# Altium footprint library Gastroscopy-CutController.PcbLib: 29 footprints (part 1 of 2)
Each footprint in its own frame and in the unit in brackets; x right, y up, seen from the top. Pads: shape width x height; smd on the part's side, far side on the other; paste and mask are expansions set on the pad; w line width, h text height; cw(c..) or ccw(c..) is an arc to the next point about the centre after c.
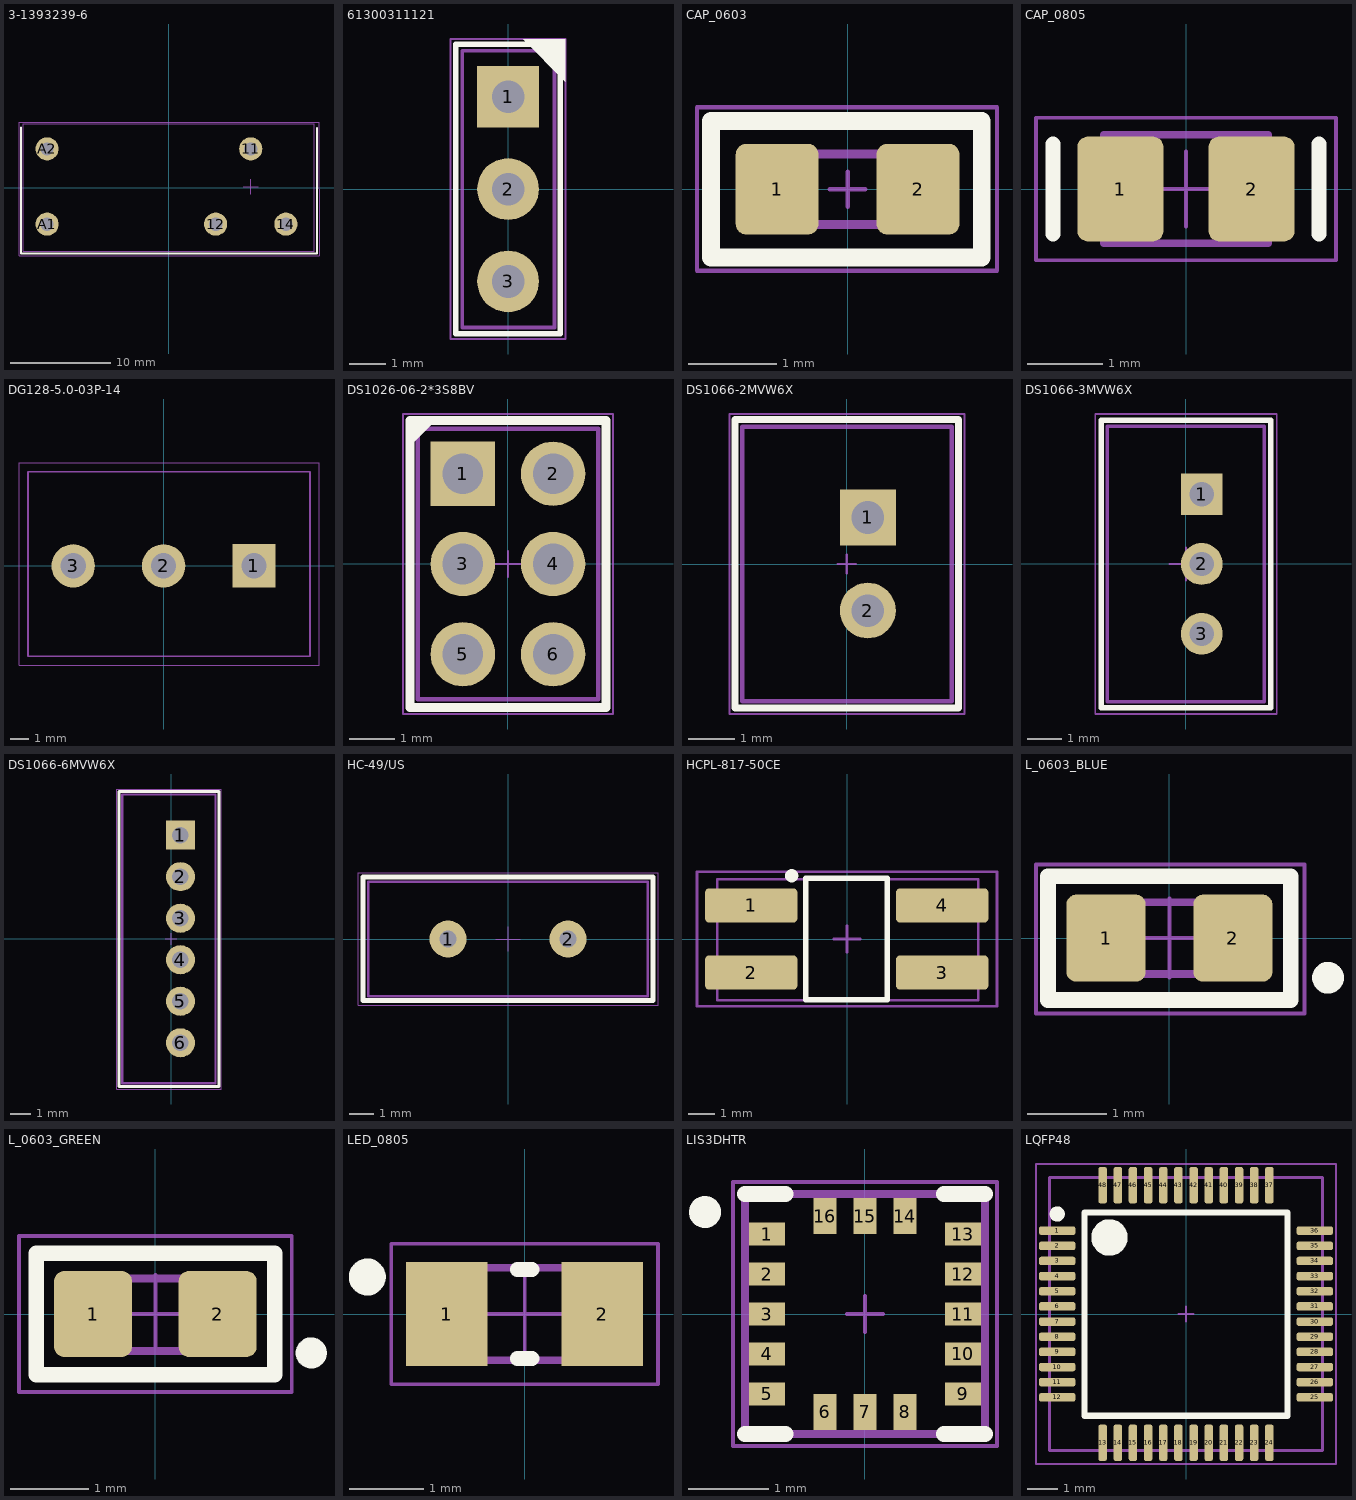
[diagram p0: the footprints below, top view; thin cyan lines are the x and y axes]

## 3-1393239-6 [mm]
height 1.12
pads (5):
  round 2.3 hole 1.32 mask+0.1: 11(8.175,3.85) 12(4.675,-3.65) 14(11.675,-3.65) A1(-12.125,-3.65) A2(-12.125,3.85)
Top Overlay:
  lines w0.2: -14.741,5.959 -14.741,-6.6 14.775,-6.6 14.775,5.945
Mechanical 9:
  text ".Designator" at -5.275,-9.195 h3
Mechanical 10:
  text ".Comment" at -5.175,-11.095 h2
Mechanical 13:
  lines w0.1: -14.5,-6.35 14.5,-6.35 14.5,6.35 -14.5,6.35 -14.5,-6.35
Mechanical 15:
  lines w0.1: 7.425,0.095 8.925,0.095 ; 8.175,-0.655 8.175,0.845 ; -14.925,-6.8 -14.925,6.502 14.975,6.502 14.975,-6.8 -14.925,-6.8
3D body "c-3-1393239-6-d-3d.stp": height 15.7, standoff -3.6, extent -14.5,-6.35 14.5,6.35

## 61300311121 [mm] "CONN HEADER VERT 3POS 2.54MM"
height 8.54
pads (3):
  rect 1.7x1.7 hole 0.9: 1(0,2.54)
  round 1.7 hole 0.9: 2(0,0) 3(0,-2.54)
Top Overlay:
  region: 0.413,4.132 1.576,4.132 1.576,2.956
  lines w0.15: -1.438,-3.982 -1.438,3.985 1.438,3.985 1.438,-3.982 -1.438,-3.982
Mechanical 13:
  lines w0.1: -1.265,-3.81 -1.265,3.81 1.275,3.81 1.275,-3.81 -1.265,-3.81
Mechanical 15:
  lines w0.05: -0.4,0 0.4,0 ; 0,-0.4 0,0.4 ; -1.583,-4.125 -1.583,4.132 1.576,4.132 1.576,-3.991 1.576,-4.125 -1.583,-4.125
3D body "User Library-PLS-3.step": height 8.54, standoff -3, extent -1.265,-3.81 1.275,3.81

## CAP_0603 [mm] "Generic 0603 capacitor, IPC"
height 1
pads (2):
  rrect25% 0.94x1.03 smd: 1(-0.8,0) 2(0.8,0)
Top Overlay:
  lines w0.2: -1.55,-0.775 1.525,-0.775 1.525,0.775 -1.55,0.775 -1.55,-0.775
Mechanical 13:
  lines w0.1: -0.8,-0.4 -0.8,0.4 0.8,0.4 0.8,-0.4 -0.8,-0.4
Mechanical 15:
  lines w0.05: -0.2,0 0.2,0 ; 0,-0.2 0,0.2 ; -1.709,-0.924 1.696,-0.924 1.696,0.929 -1.709,0.929 -1.709,-0.924
3D body "CAPC0603.STEP": height 0.9, standoff 0, extent -0.8,-0.4 0.8,0.4

## CAP_0805 [mm] "Generic 0805 capacitor, IPC"
height 1.35
pads (2):
  rrect25% 1.15x1.4 smd: 1(-0.875,0) 2(0.875,0)
Top Overlay:
  lines w0.2: -1.775,-0.6 -1.775,0.6 ; 1.775,-0.6 1.775,0.6
Mechanical 13:
  lines w0.1: -1.1,-0.725 1.1,-0.725 1.1,0.725 -1.1,0.725 -1.1,-0.725
Mechanical 15:
  lines w0.05: -0.5,0 0.5,0 ; 0,-0.5 0,0.5 ; -2,-0.95 2,-0.95 2,0.95 -2,0.95 -2,-0.95
3D body "C0805.step": height 1.46, standoff 0.01, extent -1.1,-0.675 1.1,0.675

## DG128-5.0-03P-14 [mm]
pads (3):
  rect 2.4x2.4 hole 1.4: 1(5,0)
  round 2.4 hole 1.4: 2(0,0) 3(-5,0)
Mechanical 13:
  lines w0.1: -7.5,-5 8.1,-5 8.1,5.2 -7.5,5.2 -7.5,-5
Mechanical 15:
  lines w0.05: -0.3,0 0.3,0 ; 0,-0.3 0,0.3 ; -8,-5.5 8.6,-5.5 8.6,5.7 -8,5.7 -8,-4.4 -8,-5.5
3D body "DG128-5.0-03.stp": height 14.1, standoff -3.5, extent -7.5,-5 8.1,5.2

## DS1026-06-2*3S8BV [mm]
pads (6):
  rect 1.428x1.428 hole 0.9: 1(-1,2)
  round 1.428 hole 0.9: 2(1,2) 3(-1,0) 4(1,0) 5(-1,-2) 6(1,-2)
Top Overlay:
  region: -2.176,3.176 -2.176,2.608 -1.608,3.176
  lines w0.2: -2.176,-3.176 -2.176,3.176 2.173,3.176 2.173,-3.176 -2.176,-3.176
Mechanical 13:
  lines w0.1: -2,-3 -2,3 2,3 2,-3 -2,-3
Mechanical 15:
  lines w0.05: -0.288,0 0.288,0 ; 0,-0.288 0,0.288 ; -2.324,-3.325 -2.324,3.324 2.326,3.324 2.326,-3.325 -2.324,-3.325
3D body "User Library-PBD2-6.step": height 4.5, standoff -3.15, extent -2,-3 2,3

## DS1066-2MVW6X [mm]
pads (2):
  rect 1.2x1.2 hole 0.7: 1(0.45,1)
  round 1.2 hole 0.7: 2(0.45,-1)
Top Overlay:
  lines w0.15: -2.402,-3.098 2.401,-3.098 2.401,3.103 -2.402,3.103 -2.402,-3.098
Mechanical 13:
  lines w0.1: -2.25,-2.95 -2.25,2.95 2.25,2.95 2.25,-2.95 -2.25,-2.95
Mechanical 15:
  lines w0.05: -0.197,0 0.197,0 ; 0,-0.197 0,0.197 ; -2.523,-3.223 -2.523,3.224 2.528,3.224 2.528,-3.223 -2.523,-3.223
3D body "B2B-PH-K-S.STEP": height 6, standoff -3.4, extent -2.25,-2.95 2.25,2.95

## DS1066-3MVW6X [mm]
pads (3):
  rect 1.2x1.2 hole 0.7: 1(0.45,2)
  round 1.2 hole 0.7: 2(0.45,0) 3(0.45,-2)
Top Overlay:
  lines w0.15: -2.427,-4.122 2.426,-4.122 2.426,4.123 -2.427,4.123 -2.427,-4.122
Mechanical 13:
  lines w0.1: -2.25,-3.95 2.25,-3.95 2.25,3.95 -2.25,3.95 -2.25,-3.95
Mechanical 15:
  lines w0.05: -0.475,0 0.475,0 ; 0,-0.475 0,0.475 ; -2.599,-4.3 2.525,-4.3 2.6,-4.3 2.6,4.299 -1.783,4.299 -2.599,4.299 -2.599,-4.3
3D body "B3B-PH-K-S.STEP": height 6, standoff -3.4, extent -2.25,-3.95 2.25,3.95

## DS1066-6MVW6X [mm]
pads (6):
  rect 1.4x1.4 hole 0.8: 1(0.45,5)
  round 1.4 hole 0.8: 2(0.45,3) 3(0.45,1) 4(0.45,-1) 5(0.45,-3) 6(0.45,-5)
Top Overlay:
  lines w0.15: -2.5,-7.102 -2.5,7.099 2.301,7.099 2.301,-7.102 -2.5,-7.102
Mechanical 13:
  lines w0.1: -2.35,-6.95 -2.35,6.95 2.15,6.95 2.15,-6.95 -2.35,-6.95
Mechanical 15:
  lines w0.05: -0.268,0 0.268,0 ; 0,-0.268 0,0.268 ; -2.624,-7.225 2.426,-7.225 2.426,7.224 -2.624,7.224 -2.624,-7.225
3D body "B6B-PH-K-S.STEP": height 6, standoff -3.4, extent -2.35,-6.95 2.15,6.95

## HC-49/US [mm]
pads (2):
  round 1.5 hole 0.7: 1(-2.44,0) 2(2.44,0)
Top Overlay:
  lines w0.2: -5.9,-2.5 5.9,-2.5 5.9,2.522 -5.9,2.522 -5.9,-2.5
Mechanical 13:
  lines w0.1: -5.675,-2.325 5.675,-2.325 5.675,2.325 -5.675,2.325 -5.675,-2.325
Mechanical 15:
  lines w0.05: -0.5,0 0.5,0 ; 0,-0.5 0,0.5 ; -6.1,-2.7 6.1,-2.7 6.1,2.7 -6.1,2.7 -6.1,-2.7
3D body "User Library-HC49_Crystal.step": height 3.6, standoff -12.7, extent -5.675,-2.325 5.675,2.325

## HCPL-817-50CE [mm] "SOP, 4-Leads, Body 4,58x6,50mm, Pitch 2,54mm, IPC Medium Density"
height 3.7
pads (4):
  rrect25% 3.5x1.3 smd: 1(-3.625,1.27) 2(-3.625,-1.27) 3(3.6,-1.27) 4(3.6,1.27)
Top Overlay:
  circle w0.25: c-2.094,2.394 r0.125
  lines w0.2: -1.563,-2.3 -1.563,2.3 1.52,2.3 1.52,-2.3 -1.563,-2.3
Mechanical 9:
  text ".Designator" at -5,3.3 h3
Mechanical 10:
  text ".Comment" at -2.9,-4 h2
Mechanical 13:
  lines w0.1: -4.915,-2.315 4.965,-2.315 4.965,2.265 -4.915,2.265 -4.915,-2.315
Mechanical 15:
  lines w0.1: -0.5,0 0.5,0 ; 0,-0.5 0,0.5 ; -5.675,-2.55 -5.675,2.55 5.675,2.55 5.675,-2.55 -5.675,-2.55
3D body "User Library-KB817-B.STEP": height 3.75, standoff -0.07, extent -4.915,-2.315 4.965,2.265

## L_0603_BLUE [mm]
height 1.1
pads (2):
  rrect25% 1x1.1 smd: 1(-0.8,0) 2(0.8,0)
Top Overlay:
  circle w0.2: c2,-0.5 r0.1
  lines w0.2: -1.53,-0.78 1.53,-0.78 1.53,0.78 -1.53,0.78 -1.53,-0.78
Mechanical 13:
  lines w0.1: -0.859,-0.45 -0.859,0.452 0.831,0.452 0.831,-0.45 -0.859,-0.45
Mechanical 15:
  lines w0.05: -0.5,0 0.5,0 ; 0,-0.5 0,0.5 ; -1.683,-0.95 -1.683,0.927 1.703,0.927 1.703,-0.95 -1.683,-0.95
3D body "User Library-LED0603_BLUE.STEP": height 0.9, standoff 0, extent -0.85,-0.45 0.85,0.45

## L_0603_GREEN [mm]
height 1.1
pads (2):
  rrect25% 1x1.1 smd: 1(-0.8,0) 2(0.8,0)
Top Overlay:
  circle w0.2: c2,-0.5 r0.1
  lines w0.2: -1.53,-0.78 -1.53,0.78 1.53,0.78 1.53,-0.78 -1.53,-0.78
Mechanical 13:
  lines w0.1: -0.85,-0.474 0.844,-0.474 0.844,0.455 -0.85,0.455 -0.85,-0.474
Mechanical 15:
  lines w0.05: -0.5,0 0.5,0 ; 0,-0.5 0,0.5 ; -1.75,-1 1.75,-1 1.75,1 -1.75,1 -1.75,-1
3D body "User Library-LTST-C190GKT.STEP": height 0.9, standoff 0, extent -0.85,-0.45 0.85,0.45

## LED_0805 [mm] "0805 (2012 Metric), Pin 1 mark - Cathode, IPC"
height 0.8
pads (2):
  rect 1.1x1.4 smd: 1(-1.05,0) 2(1.05,0)
Top Overlay:
  circle w0.25: c-2.125,0.5 r0.125
  lines w0.2: -0.1,-0.6 0.1,-0.6 ; -0.1,0.6 0.1,0.6
Mechanical 13:
  lines w0.1: -1,-0.625 1,-0.625 1,0.625 -1,0.625 -1,-0.625
Mechanical 15:
  lines w0.05: -0.5,0 0.5,0 ; 0,-0.5 0,0.5 ; -1.8,-0.95 1.8,-0.95 1.8,0.95 -1.8,0.95 -1.8,-0.95
3D body "LED0805.stp": height 0.7, standoff 0, extent -1,-0.625 1,0.625

## LIS3DHTR [mm]
height 2.09
pads (16):
  rect 0.45x0.29 smd paste-1 mask+0.05: 1(-1.225,1) 2(-1.225,0.5) 3(-1.225,0) 4(-1.225,-0.5) 5(-1.225,-1) 9(1.225,-1) 10(1.225,-0.5) 11(1.225,0) 12(1.225,0.5) 13(1.225,1)
  rect 0.29x0.45 smd paste-1 mask+0.05: 6(-0.5,-1.225) 7(0,-1.225) 8(0.5,-1.225) 14(0.5,1.225) 15(0,1.225) 16(-0.5,1.225)
Top Overlay:
  circle w0.2: c-2,1.275 r0.1
  lines w0.2: -1.5,-1.5 -0.99,-1.5 ; -1.5,1.5 -0.99,1.5 ; 0.99,-1.5 1.5,-1.5 ; 0.99,1.5 1.5,1.5
Top Paste:
  region: -1.045,0.86 -1.405,0.86 -1.405,1.14 -1.045,1.14
  region: -1.045,0.36 -1.405,0.36 -1.405,0.64 -1.045,0.64
  region: -1.045,-1.14 -1.405,-1.14 -1.405,-0.86 -1.045,-0.86
  region: -1.045,-0.64 -1.405,-0.64 -1.405,-0.36 -1.045,-0.36
  region: -0.36,-1.405 -0.64,-1.405 -0.64,-1.045 -0.36,-1.045
  region: 0.64,-1.405 0.36,-1.405 0.36,-1.045 0.64,-1.045
  region: 1.405,-1.14 1.045,-1.14 1.045,-0.86 1.405,-0.86
  region: 1.405,-0.64 1.045,-0.64 1.045,-0.36 1.405,-0.36
  region: 1.405,0.86 1.045,0.86 1.045,1.14 1.405,1.14
  region: 1.405,0.36 1.045,0.36 1.045,0.64 1.405,0.64
  region: 0.64,1.045 0.36,1.045 0.36,1.405 0.64,1.405
  region: -0.36,1.045 -0.64,1.045 -0.64,1.405 -0.36,1.405
  region: 0.14,1.045 -0.14,1.045 -0.14,1.405 0.14,1.405
  region: 1.405,-0.14 1.045,-0.14 1.045,0.14 1.405,0.14
  region: -1.045,-0.14 -1.405,-0.14 -1.405,0.14 -1.045,0.14
  region: 0.14,-1.405 -0.14,-1.405 -0.14,-1.045 0.14,-1.045
Mechanical 13:
  lines w0.1: -1.5,-1.5 1.5,-1.5 1.5,1.5 -1.5,1.5 -1.5,-1.5
Mechanical 15:
  lines w0.05: -0.225,0 0.225,0 ; 0,-0.225 0,0.225 ; -1.651,-1.65 1.652,-1.65 1.652,1.65 -1.651,1.65 -1.651,-1.65
3D body "step_temp.STEP": height 1.02, standoff 0.02, extent -1.5,-1.5 1.5,1.5

## LQFP48 [mm] "Thin QFP, 48-Leads, Body 7x7mm, Pitch 0.5mm, IPC Medium Density"
height 1.6
pads (48):
  rrect50% 1.2x0.28 smd mask+0.05: 1(-4.25,2.75) 2(-4.25,2.25) 3(-4.25,1.75) 4(-4.25,1.25) 5(-4.25,0.75) 6(-4.25,0.25) 7(-4.25,-0.25) 8(-4.25,-0.75) 9(-4.25,-1.25) 10(-4.25,-1.75) 11(-4.25,-2.25) 12(-4.25,-2.75) 25(4.25,-2.75) 26(4.25,-2.25) 27(4.25,-1.75) 28(4.25,-1.25) 29(4.25,-0.75) 30(4.25,-0.25) 31(4.25,0.25) 32(4.25,0.75) 33(4.25,1.25) 34(4.25,1.75) 35(4.25,2.25) 36(4.25,2.75)
  rrect50% 0.28x1.2 smd mask+0.05: 13(-2.75,-4.25) 14(-2.25,-4.25) 15(-1.75,-4.25) 16(-1.25,-4.25) 17(-0.75,-4.25) 18(-0.25,-4.25) 19(0.25,-4.25) 20(0.75,-4.25) 21(1.25,-4.25) 22(1.75,-4.25) 23(2.25,-4.25) 24(2.75,-4.25) 37(2.75,4.25) 38(2.25,4.25) 39(1.75,4.25) 40(1.25,4.25) 41(0.75,4.25) 42(0.25,4.25) 43(-0.25,4.25) 44(-0.75,4.25) 45(-1.25,4.25) 46(-1.75,4.25) 47(-2.25,4.25) 48(-2.75,4.25)
Top Overlay:
  circle w0.6: c-2.525,2.525 r0.3
  circle w0.25: c-4.25,3.3 r0.125
  lines w0.2: -3.35,-3.358 -3.35,3.35 3.35,3.35 3.35,-3.358 -3.35,-3.358
Mechanical 9:
  text ".Designator" at -5.2,5.6 h3
Mechanical 10:
  text ".Comment" at -3.1,-6.5 h2
Mechanical 13:
  lines w0.1: -4.5,-4.5 4.5,-4.5 4.5,4.5 -4.5,4.5 -4.5,-4.5
Mechanical 15:
  lines w0.05: -0.25,0 0.25,0 ; 0,-0.25 0,0.25 ; -4.95,-4.95 4.95,-4.95 4.95,4.95 -4.95,4.95 -4.95,-4.95
3D body "vbh48a.stp": height 1.46, standoff -0.04, extent -4.508,-4.508 4.508,4.508